# Altium schematic symbol library Murata_DC_DC_5V_7.5W.SchLib: 1 symbol
Pins are listed as number, name and electrical type; pins without a type are passive.

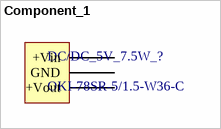
[diagram p0: symbol Component_1]

## Component_1
designator DC/DC_5V_7.5W_?, comment OKI-78SR-5/1.5-W36-C
Non-Isolated DC/DC Converters 7.5W 24Vin 5Vout1 1.5A SIP Non-Iso
footprint OKI-78SR-5/1.5-W36-C (Non-Isolated DC/DC Converters 7.5W 24Vin 5Vout1 1.5A SIP Non-Iso)
pins: 1 +Vin, 2 GND, 3 +Vout